# EAGLE library part LBA710 (library LxA710 - Solid State Relay Form A-AB)
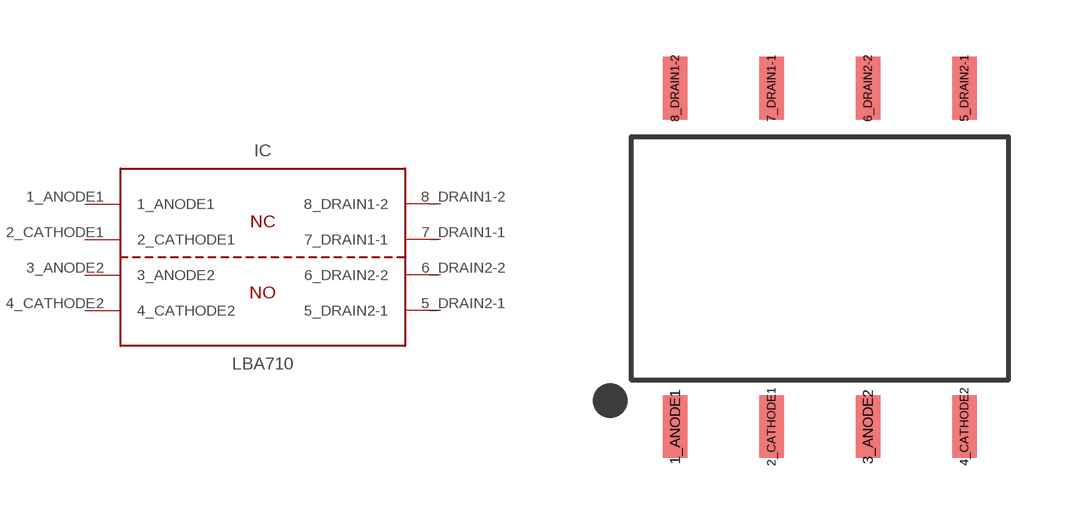
[diagram p0: symbol with the pads of SMD_DIP8; footprint SMD_DIP8]

Designator prefix IC

## LBA710  [SMD_DIP8]
1_ANODE1  1_ANODE1  in
2_CATHODE1  2_CATHODE1  sup
3_ANODE2  3_ANODE2  in
4_CATHODE2  4_CATHODE2  sup
5_DRAIN2-1  5_DRAIN2-1
6_DRAIN2-2  6_DRAIN2-2
7_DRAIN1-1  7_DRAIN1-1
8_DRAIN1-2  8_DRAIN1-2

## Footprint SMD_DIP8 (pad centres in mm)
smd 0.65 x 1.65: 1_ANODE1 -3.81,-4.44; 2_CATHODE1 -1.27,-4.44; 3_ANODE2 1.27,-4.44; 4_CATHODE2 3.81,-4.44; 5_DRAIN2-1 3.81,4.48; 6_DRAIN2-2 1.27,4.48; 7_DRAIN1-1 -1.27,4.48; 8_DRAIN1-2 -3.81,4.48